# Altium footprint library MODULE_DC2DC.PcbLib: 41 footprints (part 3 of 3)
Each footprint in its own frame and in the unit in brackets; x right, y up, seen from the top. Pads: shape width x height; smd on the part's side, far side on the other; paste and mask are expansions set on the pad; w line width, h text height; cw(c..) or ccw(c..) is an arc to the next point about the centre after c.
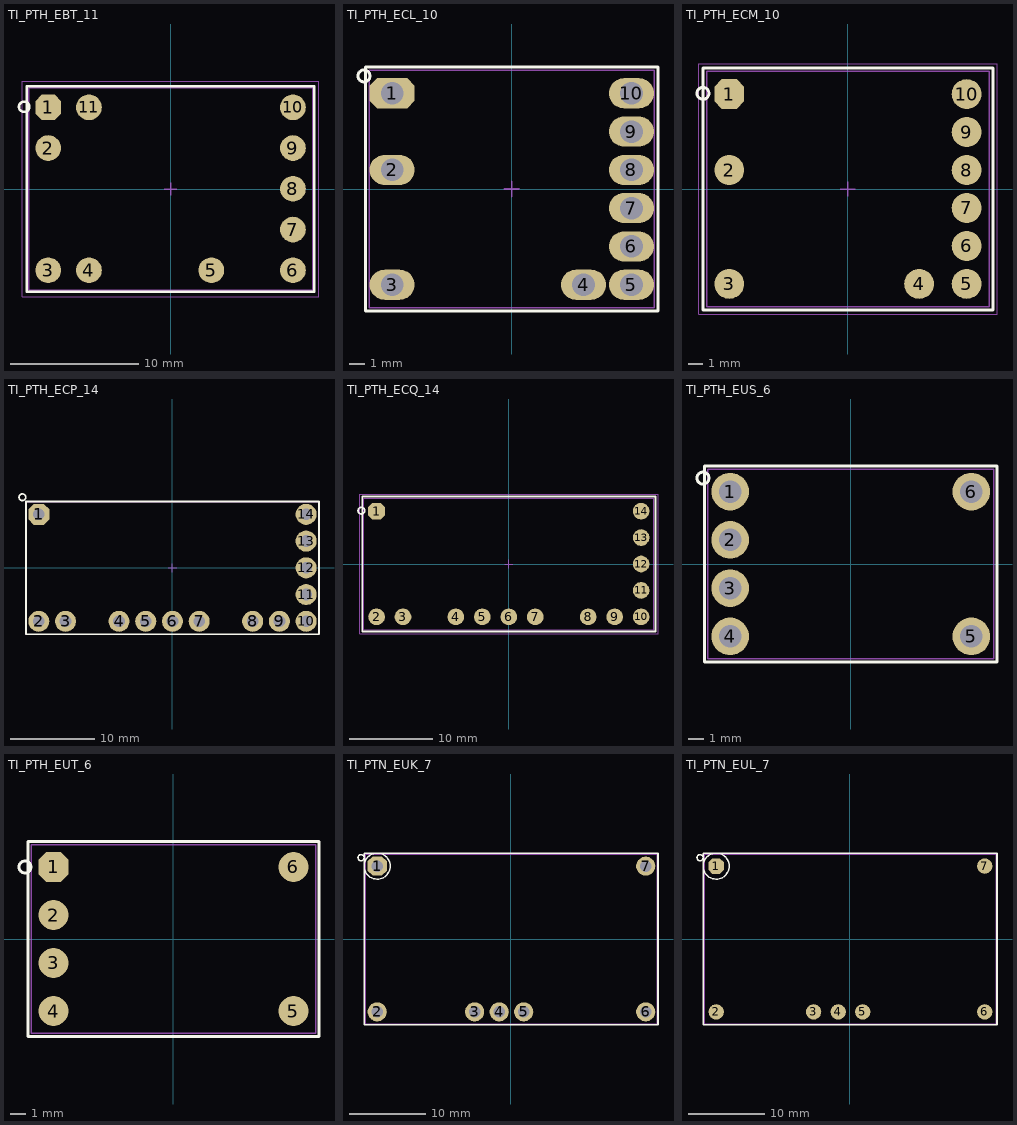
[diagram p2: the footprints below, top view; thin cyan lines are the x and y axes]

## TI_PTH_EBT_11 [mm] "Module, 11-Leads, Body 22.1x15.75mm"
height 8.5
pads (11):
  oct 2x2 smd: 1(-9.525,6.355)
  round 2 smd: 2(-9.525,3.185) 3(-9.525,-6.325) 4(-6.355,-6.325) 5(3.175,-6.325) 6(9.525,-6.325) 7(9.525,-3.155) 8(9.525,0.015) 9(9.525,3.185) 10(9.525,6.355) 11(-6.355,6.355)
Top Overlay:
  circle w0.2: c-11.4,6.4 r0.4
  lines w0.2: -11.2,-8 -11.2,8 11.2,8 11.2,-8 -11.2,-8
Mechanical 13:
  lines w0.1: -11.05,-7.875 -11.05,7.875 11.05,7.875 11.05,-7.875 -11.05,-7.875
Mechanical 15:
  lines w0.05: -11.555,-8.38 11.555,-8.38 11.555,8.38 -11.555,8.38 -11.555,-8.38
  lines w0.1: -0.5,0 0.5,0 ; 0,-0.5 0,0.5
3D body: height 8.5, standoff 0.25, extent -11.05,-7.875 11.05,7.875

## TI_PTH_ECL_10 [mm] "Module, 10-Leads, Body 18.92x15.75 mm"
height 8.5
pads (10):
  oct 3x2 / inner oct 1.8x1.8 / far side oct 3x2 hole 1.5: 1(-7.94,6.35)
  oval 3x2 / inner round 1.8 / far side oval 3x2 hole 1.5: 2(-7.94,1.27) 3(-7.94,-6.35) 4(4.76,-6.35) 5(7.94,-6.35) 6(7.94,-3.81) 7(7.94,-1.27) 8(7.94,1.27) 9(7.94,3.81) 10(7.94,6.35)
Top Overlay:
  circle w0.2: c-9.8,7.5 r0.4
  lines w0.2: -9.7,-8.1 -9.7,8.1 9.7,8.1 9.7,-8.1 -9.7,-8.1
Mechanical 13:
  lines w0.1: -0.5,0 0.5,0 ; 0,-0.5 0,0.5 ; -9.46,-7.875 9.46,-7.875 9.46,7.875 -9.46,7.875 -9.46,-7.875
3D body: height 8.5, standoff 0.25, extent -9.46,-7.875 9.46,7.875

## TI_PTH_ECM_10 [mm] "Module, 10-Leads, Body 18.92x15.75 mm"
height 8.5
pads (10):
  oct 2x2 smd: 1(-7.94,6.35)
  round 2 smd: 2(-7.94,1.27) 3(-7.94,-6.35) 4(4.76,-6.35) 5(7.94,-6.35) 6(7.94,-3.81) 7(7.94,-1.27) 8(7.94,1.27) 9(7.94,3.81) 10(7.94,6.35)
Top Overlay:
  circle w0.2: c-9.7,6.4 r0.4
  lines w0.2: -9.7,-8.1 9.7,-8.1 9.7,8.1 -9.7,8.1 -9.7,-8.1
Mechanical 13:
  lines w0.1: -9.46,-7.875 -9.46,7.875 9.46,7.875 9.46,-7.875 -9.46,-7.875
Mechanical 15:
  lines w0.05: -9.97,-8.38 9.97,-8.38 9.97,8.38 -9.97,8.38 -9.97,-8.38
  lines w0.1: -0.5,0 0.5,0 ; 0,-0.5 0,0.5
3D body: height 8.5, standoff 0.25, extent -9.46,-7.875 9.46,7.875

## TI_PTH_ECP_14 [mm] "14-Leads Double Sided Module, Body 34.8x15.75mm"
height 8.5
pads (14):
  oct 2.5x2.5 / inner oct 1.7x1.7 / far side oct 2.5x2.5 hole 1.4: 1(-15.875,6.35)
  round 2.5 / inner round 1.7 / far side round 2.5 hole 1.4: 2(-15.875,-6.35) 3(-12.7,-6.35) 4(-6.35,-6.35) 5(-3.175,-6.35) 6(0,-6.35) 7(3.175,-6.35) 8(9.525,-6.35) 9(12.7,-6.35) 10(15.875,-6.35) 11(15.875,-3.175) 12(15.875,0) 13(15.875,3.175) 14(15.875,6.35)
Top Overlay:
  circle w0.2: c-17.826,8.382 r0.4
  lines w0.2: -17.4,-7.875 -17.4,7.875 17.4,7.875 17.4,-7.875 -17.4,-7.875
Mechanical 13:
  lines w0.1: -0.5,0 0.5,0 ; 0,-0.5 0,0.5 ; -17.4,-7.875 17.4,-7.875 17.4,7.875 -17.4,7.875 -17.4,-7.875
3D body: height 8.5, standoff 0.25, extent -17.4,-7.875 17.4,7.875

## TI_PTH_ECQ_14 [mm] "14-Leads Double Sided Module, Body 34.8x15.75mm"
height 8.5
pads (14):
  oct 2x2 smd: 1(-15.875,6.35)
  round 2 smd: 2(-15.875,-6.35) 3(-12.7,-6.35) 4(-6.35,-6.35) 5(-3.175,-6.35) 6(0,-6.35) 7(3.175,-6.35) 8(9.525,-6.35) 9(12.7,-6.35) 10(15.875,-6.35) 11(15.875,-3.175) 12(15.875,0) 13(15.875,3.175) 14(15.875,6.35)
Top Overlay:
  circle w0.2: c-17.7,6.4 r0.4
  lines w0.2: -17.6,-8.1 -17.6,8.1 17.6,8.1 17.6,-8.1 -17.6,-8.1
Mechanical 13:
  lines w0.1: -17.4,-7.875 17.4,-7.875 17.4,7.875 -17.4,7.875 -17.4,-7.875
Mechanical 15:
  lines w0.05: -17.905,-8.38 -17.905,8.38 17.905,8.38 17.905,-8.38 -17.905,-8.38
  lines w0.1: -0.5,0 0.5,0 ; 0,-0.5 0,0.5
3D body: height 8.5, standoff 0.25, extent -17.4,-7.875 17.4,7.875

## TI_PTH_EUS_6 [mm] "TexasInstruments POWERMODULE, EUS Package 18.9x12.6mm"
height 8.5
pads (6):
  round 2.5 hole 1.5: 1(-8,4.8) 2(-8,1.6) 3(-8,-1.6) 4(-8,-4.8) 5(8,-4.8) 6(8,4.8)
Top Overlay:
  circle w0.2: c-9.8,5.7 r0.4
  lines w0.2: -9.7,-6.5 9.7,-6.5 9.7,6.5 -9.7,6.5 -9.7,-6.5
Mechanical 13:
  lines w0.1: -9.5,-6.3 -9.5,6.3 9.5,6.3 9.5,-6.3 -9.5,-6.3
3D body: height 8.5, standoff 0, extent -9.5,-6.3 9.5,6.3

## TI_PTH_EUT_6 [mm] "TexasInstruments POWERMODULE, EUT Package 18.9x12.6mm"
height 8.5
pads (6):
  oct 2x2 smd: 1(-8,4.8)
  round 2 smd: 2(-8,1.6) 3(-8,-1.6) 4(-8,-4.8) 5(8,-4.8) 6(8,4.8)
Top Overlay:
  circle w0.2: c-9.9,4.8 r0.4
  lines w0.2: -9.7,-6.5 -9.7,6.5 9.7,6.5 9.7,-6.5 -9.7,-6.5
Mechanical 13:
  lines w0.1: -9.5,-6.3 9.5,-6.3 9.5,6.3 -9.5,6.3 -9.5,-6.3
3D body: height 8.5, standoff 0, extent -9.5,-6.3 9.5,6.3

## TI_PTN_EUK_7 [mm] "TexasInstruments POWERMODULE, EUK, 38X22.1mm"
pads (7):
  oct 2.5x2.5 hole 1.5: 1(-17.4,9.5)
  round 2.5 hole 1.5: 2(-17.4,-9.5) 3(-4.7,-9.5) 4(-1.5,-9.5) 5(1.7,-9.5) 6(17.6,-9.5) 7(17.6,9.5)
Top Overlay:
  circle w0.2: c-19.5,10.6 r0.4
  circle w0.2: c-17.4,9.5 r1.7
  lines w0.2: -19.1,-11.2 -19.1,11.2 19.2,11.2 19.2,-11.2 -19.1,-11.2
Mechanical 13:
  lines w0.1: -18.9,-11.05 19.1,-11.05 19.1,11.05 -18.9,11.05 -18.9,-11.05
3D body: height 9.6, standoff 0, extent -18.9,-11.05 19.1,11.05

## TI_PTN_EUL_7 [mm] "TexasInstruments POWERMODULE, EUL, 38X22.1mm"
pads (7):
  oct 2x2 smd: 1(-17.4,9.5)
  round 2 smd: 2(-17.4,-9.5) 3(-4.7,-9.5) 4(-1.5,-9.5) 5(1.7,-9.5) 6(17.6,-9.5) 7(17.6,9.5)
Top Overlay:
  circle w0.2: c-17.4,9.5 r1.7
  circle w0.2: c-19.5,10.6 r0.4
  lines w0.2: -19.1,-11.2 19.2,-11.2 19.2,11.2 -19.1,11.2 -19.1,-11.2
Mechanical 13:
  lines w0.1: -18.9,-11.05 19.1,-11.05 19.1,11.05 -18.9,11.05 -18.9,-11.05
3D body: height 9.6, standoff 0, extent -18.9,-11.05 19.1,11.05